# Altium footprint library Components.PcbLib: 13 footprints
Each footprint in its own frame and in the unit in brackets; x right, y up, seen from the top. Pads: shape width x height; smd on the part's side, far side on the other; paste and mask are expansions set on the pad; w line width, h text height; cw(c..) or ccw(c..) is an arc to the next point about the centre after c.
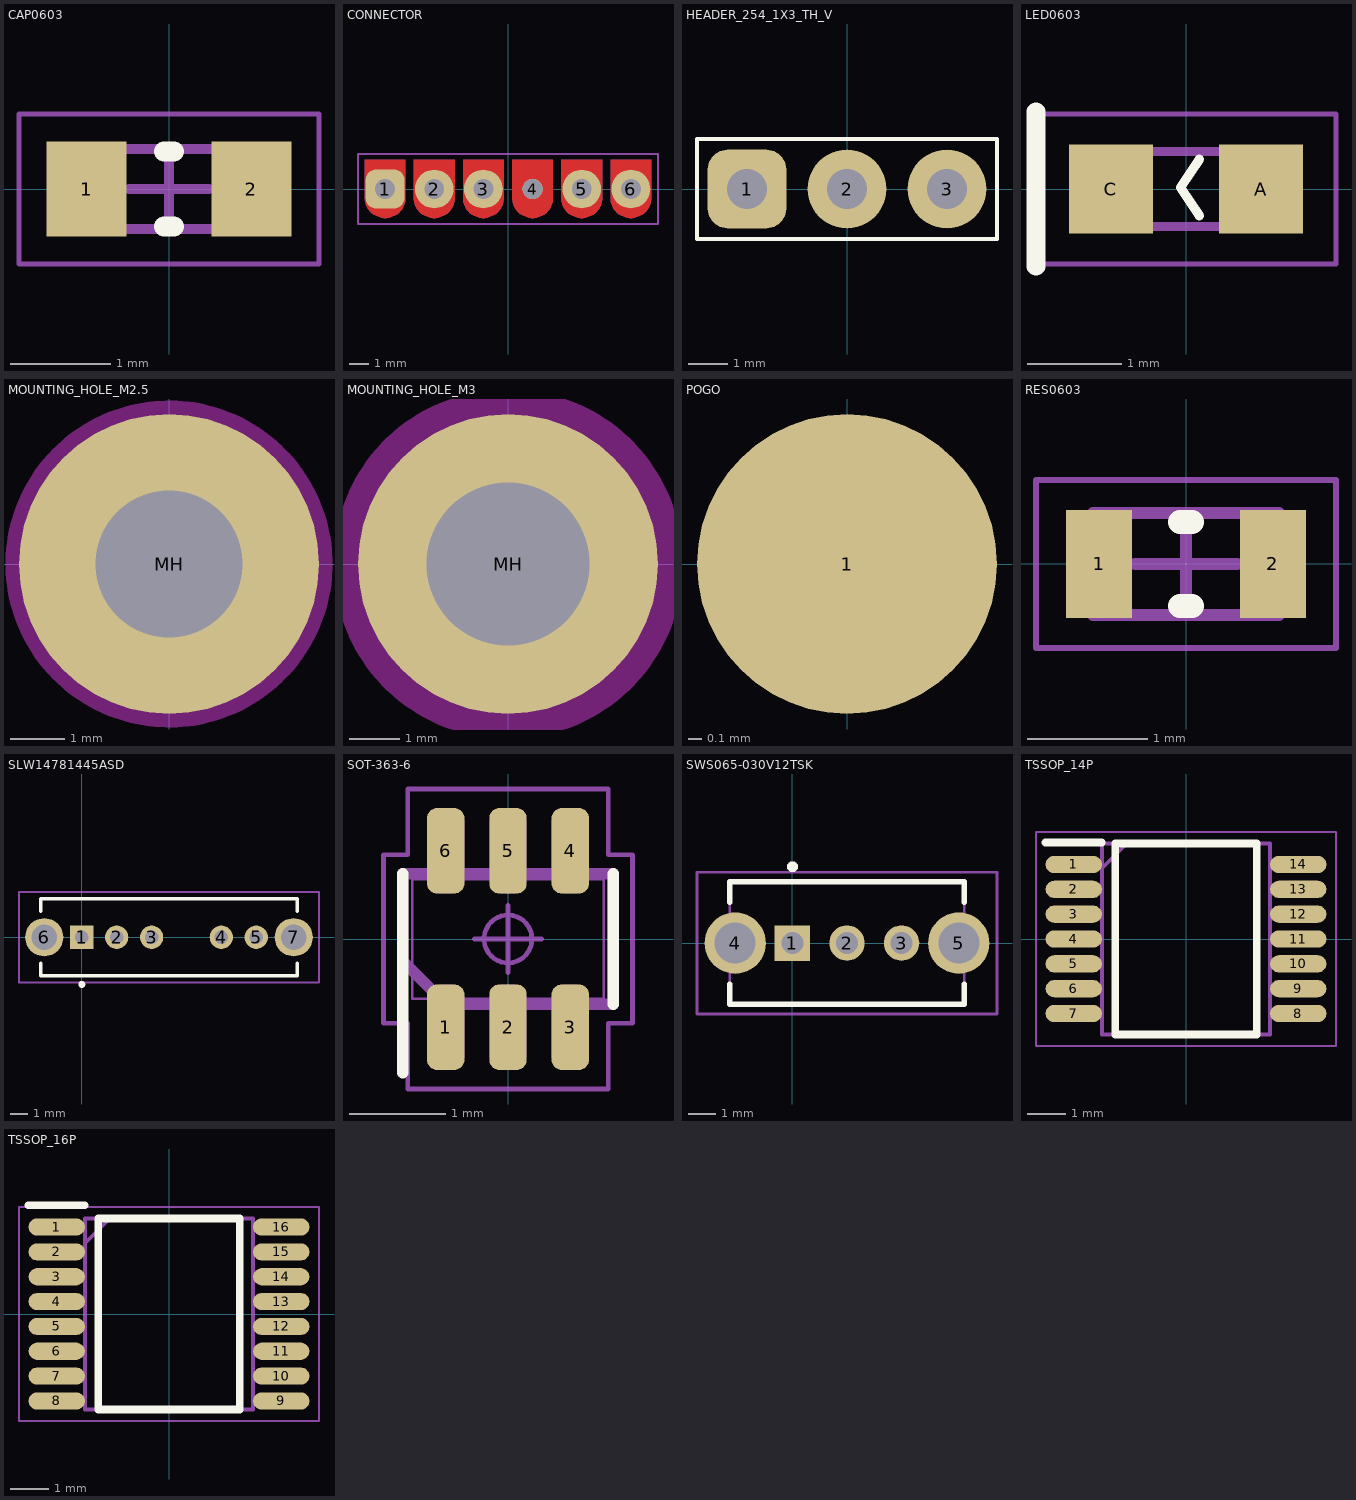
[diagram p0: the footprints below, top view; thin cyan lines are the x and y axes]

## CAP0603 [mm] "Chip Capacitor, 2-Leads, Body 1,60x0,80mm, IPC Medium Density"
height 0.8
pads (2):
  rect 0.8x0.95 smd: 1(-0.825,0) 2(0.825,0)
Top Overlay:
  lines w0.2: -0.05,-0.375 0.05,-0.375 ; -0.05,0.375 0.05,0.375
Top Assembly:
  lines w0.1: -0.8,-0.4 -0.8,0.4 0.8,0.4 0.8,-0.4 -0.8,-0.4
Top Component Outline:
  lines w0.05: -1.5,-0.75 -1.5,0.75 1.5,0.75 1.5,-0.75 -1.5,-0.75
  lines w0.1: -0.4,0 0.4,0 ; 0,-0.4 0,0.4
Top Designator:
  text ".Designator" at -2.265,-0.239 h1
3D body "CAPC1608X08N.step": height 0.8, standoff 0, extent -0.8,-0.4 0.8,0.4

## CONNECTOR [mil]
pads (18):
  rrect50% 78.74x78.74 hole 40.16 mask+0: 1(-250,0)
  round 1 smd: 1(-250,0) 2(-150,0) 3(-50,0) 4(50,0) 5(150,0) 6(250,0)
  round 1 smd far side: 1(-250,0) 2(-150,0) 3(-50,0) 4(50,0) 5(150,0) 6(250,0)
  round 78.74 hole 40.16 mask+0: 2(-150,0) 3(-50,0) 5(150,0) 6(250,0)
  round 41.16 hole 40.16 mask+0: 4(50,0)
Top Layer:
  region: 50,-39.37 47.42,-39.37 42.3,-38.7 37.32,-37.36 32.55,-35.39 28.08,-32.81 23.99,-29.66 20.34,-26.01 17.19,-21.92 14.61,-17.45 12.64,-12.68 11.3,-7.7 10.63,-2.58 10.63,0 10.63,2.58 11.3,7.7 12.64,12.68 14.61,17.45 17.19,21.92 20.34,26.01 23.99,29.66 28.08,32.81 32.55,35.39 37.32,37.36 42.3,38.7 47.42,39.37 50,39.37 52.58,39.37 57.7,38.7 62.68,37.36 67.45,35.39 71.92,32.81 76.01,29.66 79.66,26.01 82.81,21.92 85.39,17.45 87.36,12.68 88.7,7.7 89.37,2.58 89.37,0 89.37,-2.58 88.7,-7.7 87.36,-12.68 85.39,-17.45 82.81,-21.92 79.66,-26.01 76.01,-29.66 71.92,-32.81 67.45,-35.39 62.68,-37.36 57.7,-38.7 52.58,-39.37
  region: -250,-59.05 -252.71,-59.06 -258.08,-58.35 -263.32,-56.95 -268.32,-54.87 -273.02,-52.16 -277.31,-48.86 -281.15,-45.03 -284.45,-40.73 -287.16,-36.04 -289.23,-31.03 -290.63,-25.8 -291.34,-20.43 -291.34,-17.72 -291.34,59.05 -208.66,59.06 -208.66,-17.72 -208.66,-20.43 -209.37,-25.8 -210.77,-31.04 -212.84,-36.04 -215.55,-40.73 -218.85,-45.03 -222.68,-48.87 -226.98,-52.16 -231.68,-54.87 -236.68,-56.95 -241.92,-58.35 -247.29,-59.06
  region: -150,-59.05 -152.71,-59.06 -158.08,-58.35 -163.32,-56.95 -168.32,-54.87 -173.02,-52.16 -177.31,-48.86 -181.15,-45.03 -184.45,-40.73 -187.16,-36.04 -189.23,-31.03 -190.63,-25.8 -191.34,-20.43 -191.34,-17.72 -191.34,59.05 -108.66,59.06 -108.66,-17.72 -108.66,-20.43 -109.37,-25.8 -110.77,-31.04 -112.84,-36.04 -115.55,-40.73 -118.85,-45.03 -122.68,-48.87 -126.98,-52.16 -131.68,-54.87 -136.68,-56.95 -141.92,-58.35 -147.29,-59.06
  region: -50,-59.05 -52.71,-59.06 -58.08,-58.35 -63.32,-56.95 -68.32,-54.87 -73.02,-52.16 -77.31,-48.86 -81.15,-45.03 -84.45,-40.73 -87.16,-36.04 -89.23,-31.03 -90.63,-25.8 -91.34,-20.43 -91.34,-17.72 -91.34,59.05 -8.66,59.06 -8.66,-17.72 -8.66,-20.43 -9.37,-25.8 -10.77,-31.04 -12.84,-36.04 -15.55,-40.73 -18.85,-45.03 -22.68,-48.87 -26.98,-52.16 -31.68,-54.87 -36.68,-56.95 -41.92,-58.35 -47.29,-59.06
  region: 50,-59.05 47.29,-59.06 41.92,-58.35 36.68,-56.95 31.68,-54.87 26.98,-52.16 22.69,-48.86 18.85,-45.03 15.55,-40.73 12.84,-36.04 10.77,-31.03 9.37,-25.8 8.66,-20.43 8.66,-17.72 8.66,59.05 91.34,59.06 91.34,-17.72 91.34,-20.43 90.63,-25.8 89.23,-31.04 87.16,-36.04 84.45,-40.73 81.15,-45.03 77.32,-48.87 73.02,-52.16 68.32,-54.87 63.32,-56.95 58.08,-58.35 52.71,-59.06
  region: 150,-59.05 147.29,-59.06 141.92,-58.35 136.68,-56.95 131.68,-54.87 126.98,-52.16 122.69,-48.86 118.85,-45.03 115.55,-40.73 112.84,-36.04 110.77,-31.03 109.37,-25.8 108.66,-20.43 108.66,-17.72 108.66,59.05 191.34,59.06 191.34,-17.72 191.34,-20.43 190.63,-25.8 189.23,-31.04 187.16,-36.04 184.45,-40.73 181.15,-45.03 177.32,-48.87 173.02,-52.16 168.32,-54.87 163.32,-56.95 158.08,-58.35 152.71,-59.06
  region: 250,-59.05 247.29,-59.06 241.92,-58.35 236.68,-56.95 231.68,-54.87 226.98,-52.16 222.69,-48.86 218.85,-45.03 215.55,-40.73 212.84,-36.04 210.77,-31.03 209.37,-25.8 208.66,-20.43 208.66,-17.72 208.66,59.05 291.34,59.06 291.34,-17.72 291.34,-20.43 290.63,-25.8 289.23,-31.04 287.16,-36.04 284.45,-40.73 281.15,-45.03 277.32,-48.87 273.02,-52.16 268.32,-54.87 263.32,-56.95 258.08,-58.35 252.71,-59.06
Bottom Layer:
  region: 50,-39.37 47.42,-39.37 42.3,-38.7 37.32,-37.36 32.55,-35.39 28.08,-32.81 23.99,-29.66 20.34,-26.01 17.19,-21.92 14.61,-17.45 12.64,-12.68 11.3,-7.7 10.63,-2.58 10.63,0 10.63,2.58 11.3,7.7 12.64,12.68 14.61,17.45 17.19,21.92 20.34,26.01 23.99,29.66 28.08,32.81 32.55,35.39 37.32,37.36 42.3,38.7 47.42,39.37 50,39.37 52.58,39.37 57.7,38.7 62.68,37.36 67.45,35.39 71.92,32.81 76.01,29.66 79.66,26.01 82.81,21.92 85.39,17.45 87.36,12.68 88.7,7.7 89.37,2.58 89.37,0 89.37,-2.58 88.7,-7.7 87.36,-12.68 85.39,-17.45 82.81,-21.92 79.66,-26.01 76.01,-29.66 71.92,-32.81 67.45,-35.39 62.68,-37.36 57.7,-38.7 52.58,-39.37
  region: -250,-59.05 -247.29,-59.06 -241.92,-58.35 -236.68,-56.95 -231.68,-54.87 -226.98,-52.16 -222.69,-48.86 -218.85,-45.03 -215.55,-40.73 -212.84,-36.04 -210.77,-31.03 -209.37,-25.8 -208.66,-20.43 -208.66,-17.72 -208.66,59.05 -291.34,59.06 -291.34,-17.72 -291.34,-20.43 -290.63,-25.8 -289.23,-31.04 -287.16,-36.04 -284.45,-40.73 -281.15,-45.03 -277.32,-48.87 -273.02,-52.16 -268.32,-54.87 -263.32,-56.95 -258.08,-58.35 -252.71,-59.06
  region: -150,-59.05 -147.29,-59.06 -141.92,-58.35 -136.68,-56.95 -131.68,-54.87 -126.98,-52.16 -122.69,-48.86 -118.85,-45.03 -115.55,-40.73 -112.84,-36.04 -110.77,-31.03 -109.37,-25.8 -108.66,-20.43 -108.66,-17.72 -108.66,59.05 -191.34,59.06 -191.34,-17.72 -191.34,-20.43 -190.63,-25.8 -189.23,-31.04 -187.16,-36.04 -184.45,-40.73 -181.15,-45.03 -177.32,-48.87 -173.02,-52.16 -168.32,-54.87 -163.32,-56.95 -158.08,-58.35 -152.71,-59.06
  region: -50,-59.05 -47.29,-59.06 -41.92,-58.35 -36.68,-56.95 -31.68,-54.87 -26.98,-52.16 -22.69,-48.86 -18.85,-45.03 -15.55,-40.73 -12.84,-36.04 -10.77,-31.03 -9.37,-25.8 -8.66,-20.43 -8.66,-17.72 -8.66,59.05 -91.34,59.06 -91.34,-17.72 -91.34,-20.43 -90.63,-25.8 -89.23,-31.04 -87.16,-36.04 -84.45,-40.73 -81.15,-45.03 -77.32,-48.87 -73.02,-52.16 -68.32,-54.87 -63.32,-56.95 -58.08,-58.35 -52.71,-59.06
  region: 50,-59.05 52.71,-59.06 58.08,-58.35 63.32,-56.95 68.32,-54.87 73.02,-52.16 77.31,-48.86 81.15,-45.03 84.45,-40.73 87.16,-36.04 89.23,-31.03 90.63,-25.8 91.34,-20.43 91.34,-17.72 91.34,59.05 8.66,59.06 8.66,-17.72 8.66,-20.43 9.37,-25.8 10.77,-31.04 12.84,-36.04 15.55,-40.73 18.85,-45.03 22.68,-48.87 26.98,-52.16 31.68,-54.87 36.68,-56.95 41.92,-58.35 47.29,-59.06
  region: 150,-59.05 152.71,-59.06 158.08,-58.35 163.32,-56.95 168.32,-54.87 173.02,-52.16 177.31,-48.86 181.15,-45.03 184.45,-40.73 187.16,-36.04 189.23,-31.03 190.63,-25.8 191.34,-20.43 191.34,-17.72 191.34,59.05 108.66,59.06 108.66,-17.72 108.66,-20.43 109.37,-25.8 110.77,-31.04 112.84,-36.04 115.55,-40.73 118.85,-45.03 122.68,-48.87 126.98,-52.16 131.68,-54.87 136.68,-56.95 141.92,-58.35 147.29,-59.06
  region: 250,-59.05 252.71,-59.06 258.08,-58.35 263.32,-56.95 268.32,-54.87 273.02,-52.16 277.31,-48.86 281.15,-45.03 284.45,-40.73 287.16,-36.04 289.23,-31.03 290.63,-25.8 291.34,-20.43 291.34,-17.72 291.34,59.05 208.66,59.06 208.66,-17.72 208.66,-20.43 209.37,-25.8 210.77,-31.04 212.84,-36.04 215.55,-40.73 218.85,-45.03 222.68,-48.87 226.98,-52.16 231.68,-54.87 236.68,-56.95 241.92,-58.35 247.29,-59.06
Top Component Outline:
  lines w3.94: -305.12,-70.87 -305.12,70.87 305.12,70.87 305.12,-70.87 -305.12,-70.87
Top Designator:
  text ".Designator" at -88.67,-8.9 h39.37
3D body "Connector.step": height 125.98, standoff -188.98, extent -393.7,62.99 393.7,326.77

## HEADER_254_1X3_TH_V [mm]
pads (3):
  rrect50% 2x2 hole 1.02 mask+0: 1(-2.54,0)
  round 2 hole 1.02 mask+0: 2(0,0) 3(2.54,0)
Top Overlay:
  lines w0.1: -3.81,-1.27 -3.81,1.27 3.81,1.27 3.81,-1.27 -3.81,-1.27
Top Designator:
  text ".Designator" at -2.252,-0.226 h1
3D body "1pins.step": height 8.54, standoff -3, extent 1.29,-1.25 3.79,1.25
3D body "1pins.step": height 8.54, standoff -3, extent -1.25,-1.25 1.25,1.25
3D body "1pins.step": height 8.54, standoff -3, extent -3.79,-1.25 -1.29,1.25

## LED0603 [mm]
pads (2):
  rect 0.9x0.95 smd: A(0.8,0) C(-0.8,0)
Top Overlay:
  lines w0.1: 0.143,-0.284 -0.057,0.016 0.143,0.316
  lines w0.2: -1.6,-0.825 -1.6,0.825
Top 3D Body:
  lines w0.1: -0.8,0.133 -0.533,0.4 ; -0.8,-0.4 -0.8,0.4 0.8,0.4 0.8,-0.4 -0.8,-0.4
Top Component Outline:
  lines w0.05: -1.6,-0.8 -1.6,0.8 1.6,0.8 1.6,-0.8 -1.6,-0.8
Top Designator:
  text ".Designator" at -2.152,-0.226 h1
3D body "LTST-C190KRKT.stp": height 0.8, standoff 0, extent -0.83,-0.4 0.77,0.4

## MOUNTING_HOLE_M2.5 [mm] "Mounting hole for M2.5 screws."
pads (1):
  round 5.5 hole 2.7: MH(0,0)
Keep-Out Layer:
  circle w3: c0,0 r1.5

## MOUNTING_HOLE_M3 [mm] "Mounting hole for M3 screws."
pads (1):
  round 6 hole 3.25: MH(0,0)
Keep-Out Layer:
  circle w3.5: c0,0 r1.75

## POGO [mm]
pads (1):
  round 2.2 smd: 1(0,0)
3D body: height 5, standoff 0, extent -0.45,-0.45 0.45,0.45
3D body: height 3.5, standoff 0, extent -1,-1 1,1

## RES0603 [mm] "Chip Resistor, 2-Leads, Body 1,55x0,85mm, IPC Medium Density"
height 0.45
pads (2):
  rect 0.55x0.9 smd: 1(-0.725,0) 2(0.725,0)
Top Overlay:
  lines w0.2: -0.05,-0.35 0.05,-0.35 ; -0.05,0.35 0.05,0.35
Top Assembly:
  lines w0.1: -0.775,-0.425 0.775,-0.425 0.775,0.425 -0.775,0.425 -0.775,-0.425
Top Component Outline:
  lines w0.05: -1.25,-0.7 1.25,-0.7 1.25,0.7 -1.25,0.7 -1.25,-0.7
  lines w0.1: -0.425,0 0.425,0 ; 0,-0.425 0,0.425
Top Designator:
  text ".Designator" at -2.252,-0.226 h1
3D body "RESC1608X04N.step": height 0.45, standoff 0, extent -0.775,-0.425 0.775,0.425

## SLW14781445ASD [mm]
pads (7):
  rect 1.337x1.337 hole 0.78: 1(0,0)
  round 1.337 hole 0.78: 2(2,0) 3(4,0) 4(8,0) 5(10,0)
  round 2.19 hole 1.46: 6(-2.15,0) 7(12.15,0)
Top Overlay:
  circle w0.2: c0,-2.7 r0.1
  lines w0.2: -2.35,-1.5 -2.35,-2.2 12.35,-2.2 12.35,-1.5 ; -2.35,1.5 -2.35,2.2 12.35,2.2 12.35,1.5
Top Component Outline:
  lines w0.1: -3.6,-2.6 13.6,-2.6 13.6,2.6 -3.6,2.6 -3.6,-2.6
3D body "SLW-1478144-5A-S-D.stp": height 9.73, standoff -3.37, extent -2.354,-2.2 12.346,2.2

## SOT-363-6 [mm] "Small Outline Transistor (SOT23), 0.65 mm pitch; 6 pin, 2.00 mm L X 1.25 mm W X 1.10 mm H body"
height 1.1
pads (6):
  rrect51% 0.39x0.89 smd: 1(-0.65,-0.92) 2(0,-0.92) 3(0.65,-0.92) 4(0.65,0.92) 5(0,0.92) 6(-0.65,0.92)
Top Overlay:
  lines w0.12: -1.1,-1.397 -1.1,0.68 ; 1.1,-0.68 1.1,0.68
Top Assembly:
  lines w0.1: -0.795,-1.215 ccw(c-0.695,-1.215) -0.695,-1.315 -0.605,-1.315 ccw(c-0.605,-1.215) -0.505,-1.215 -0.505,-0.625 ccw(c-0.605,-0.625) -0.605,-0.525 -0.695,-0.525 ccw(c-0.695,-0.625) -0.795,-0.625 -0.795,-1.215 ; -0.795,0.625 ccw(c-0.695,0.625) -0.695,0.525 -0.605,0.525 ccw(c-0.605,0.625) -0.505,0.625 -0.505,1.215 ccw(c-0.605,1.215) -0.605,1.315 -0.695,1.315 ccw(c-0.695,1.215) -0.795,1.215 -0.795,0.625 ; -0.145,-1.215 ccw(c-0.045,-1.215) -0.045,-1.315 0.045,-1.315 ccw(c0.045,-1.215) 0.145,-1.215 0.145,-0.625 ccw(c0.045,-0.625) 0.045,-0.525 -0.045,-0.525 ccw(c-0.045,-0.625) -0.145,-0.625 -0.145,-1.215 ; -0.145,0.625 ccw(c-0.045,0.625) -0.045,0.525 0.045,0.525 ccw(c0.045,0.625) 0.145,0.625 0.145,1.215 ccw(c0.045,1.215) 0.045,1.315 -0.045,1.315 ccw(c-0.045,1.215) -0.145,1.215 -0.145,0.625 ; 0.505,-1.215 ccw(c0.605,-1.215) 0.605,-1.315 0.695,-1.315 ccw(c0.695,-1.215) 0.795,-1.215 0.795,-0.625 ccw(c0.695,-0.625) 0.695,-0.525 0.605,-0.525 ccw(c0.605,-0.625) 0.505,-0.625 0.505,-1.215 ; 0.505,0.625 ccw(c0.605,0.625) 0.605,0.525 0.695,0.525 ccw(c0.695,0.625) 0.795,0.625 0.795,1.215 ccw(c0.695,1.215) 0.695,1.315 0.605,1.315 ccw(c0.605,1.215) 0.505,1.215 0.505,0.625
  lines w0.12: -1.1,-0.227 -1.1,0.68 1.1,0.68 1.1,-0.68 -0.647,-0.68 -1.1,-0.227
Top Component Outline:
  circle w0.05: c0,0 r0.25
  lines w0.05: -0.35,0 0.35,0 ; 0,-0.35 0,0.35 ; -1.3,-0.88 -1.045,-0.88 -1.045,-1.565 1.045,-1.565 1.045,-0.88 1.3,-0.88 1.3,0.88 1.045,0.88 1.045,1.565 -1.045,1.565 -1.045,0.88 -1.3,0.88 -1.3,-0.88
Mechanical 17:
  lines w0.025: -1,-0.625 1,-0.625 1,0.625 -1,0.625 -1,-0.625 ; -0.775,-1.05 -0.775,-0.75 -0.525,-0.75 -0.525,-1.05 -0.775,-1.05 ; -0.775,0.75 -0.775,1.05 -0.525,1.05 -0.525,0.75 -0.775,0.75 ; -0.125,-1.05 -0.125,-0.75 0.125,-0.75 0.125,-1.05 -0.125,-1.05 ; -0.125,0.75 -0.125,1.05 0.125,1.05 0.125,0.75 -0.125,0.75 ; 0.525,-1.05 0.525,-0.75 0.775,-0.75 0.775,-1.05 0.525,-1.05 ; 0.525,0.75 0.525,1.05 0.775,1.05 0.775,0.75 0.525,0.75
Top Designator:
  text ".Designator" at -2.252,-0.226 h1
3D body "SOT363N.STEP": height 1.1, standoff 0, extent -1,-1.05 1,1.05

## SWS065-030V12TSK [mm]
pads (5):
  rect 1.3x1.3 hole 0.8: 1(0,0)
  round 1.3 hole 0.8: 2(2,0) 3(4,0)
  round 2.25 hole 1.5: 4(-2.1,0) 5(6.1,0)
Top Overlay:
  circle w0.2: c0,2.8 r0.1
  lines w0.2: -2.3,-1.5 -2.3,-2.25 6.3,-2.25 6.3,-1.5 ; -2.3,1.5 -2.3,2.25 6.3,2.25 6.3,1.5
Top 3D Body:
  lines w0.1: -2.3,-2.25 -2.3,2.25 6.3,2.25 6.3,-2.25 -2.3,-2.25
Top Component Outline:
  lines w0.1: -3.5,-2.6 -3.5,2.6 7.5,2.6 7.5,-2.6 -3.5,-2.6
3D body "SWS065-030V12TSK.stp": height 7.59, standoff -2.91, extent -2.3,-2.25 6.3,2.25

## TSSOP_14P [mm]
pads (14):
  oval 1.475x0.45 smd: 1(-2.938,1.95) 2(-2.938,1.3) 3(-2.938,0.65) 4(-2.938,0) 5(-2.938,-0.65) 6(-2.938,-1.3) 7(-2.938,-1.95) 8(2.938,-1.95) 9(2.938,-1.3) 10(2.938,-0.65) 11(2.938,0) 12(2.938,0.65) 13(2.938,1.3) 14(2.938,1.95)
Top Overlay:
  lines w0.2: -3.675,2.525 -2.2,2.525 ; -1.85,-2.5 1.85,-2.5 1.85,2.5 -1.85,2.5 -1.85,-2.5
Top 3D Body:
  lines w0.1: -2.2,1.85 -1.55,2.5 ; -2.2,-2.5 2.2,-2.5 2.2,2.5 -2.2,2.5 -2.2,-2.5
Top Component Outline:
  lines w0.05: -3.925,-2.8 3.925,-2.8 3.925,2.8 -3.925,2.8 -3.925,-2.8
Top Designator:
  text ".Designator" at -2.252,-0.226 h1
3D body "LM339BIPWR.stp": height 1.13, standoff 0, extent -3.2,-2.5 3.2,2.5

## TSSOP_16P [mm]
pads (16):
  oval 1.475x0.45 smd: 1(-2.938,2.275) 2(-2.938,1.625) 3(-2.938,0.975) 4(-2.938,0.325) 5(-2.938,-0.325) 6(-2.938,-0.975) 7(-2.938,-1.625) 8(-2.938,-2.275) 9(2.938,-2.275) 10(2.938,-1.625) 11(2.938,-0.975) 12(2.938,-0.325) 13(2.938,0.325) 14(2.938,0.975) 15(2.938,1.625) 16(2.938,2.275)
Top Overlay:
  lines w0.2: -3.675,2.85 -2.2,2.85 ; -1.85,-2.5 1.85,-2.5 1.85,2.5 -1.85,2.5 -1.85,-2.5
Top 3D Body:
  lines w0.1: -2.2,1.85 -1.55,2.5 ; -2.2,-2.5 2.2,-2.5 2.2,2.5 -2.2,2.5 -2.2,-2.5
Top Component Outline:
  lines w0.05: -3.925,-2.8 3.925,-2.8 3.925,2.8 -3.925,2.8 -3.925,-2.8
Top Designator:
  text ".Designator" at -2.252,-0.226 h1
3D body "74HC4053PW,118.stp": height 0.98, standoff 0, extent -3.21,-2.5 3.21,2.5